# Altium schematic symbol library Lund_Schematics.SchLib: 27 symbols
Pins are listed as number, name and electrical type; pins without a type are passive.

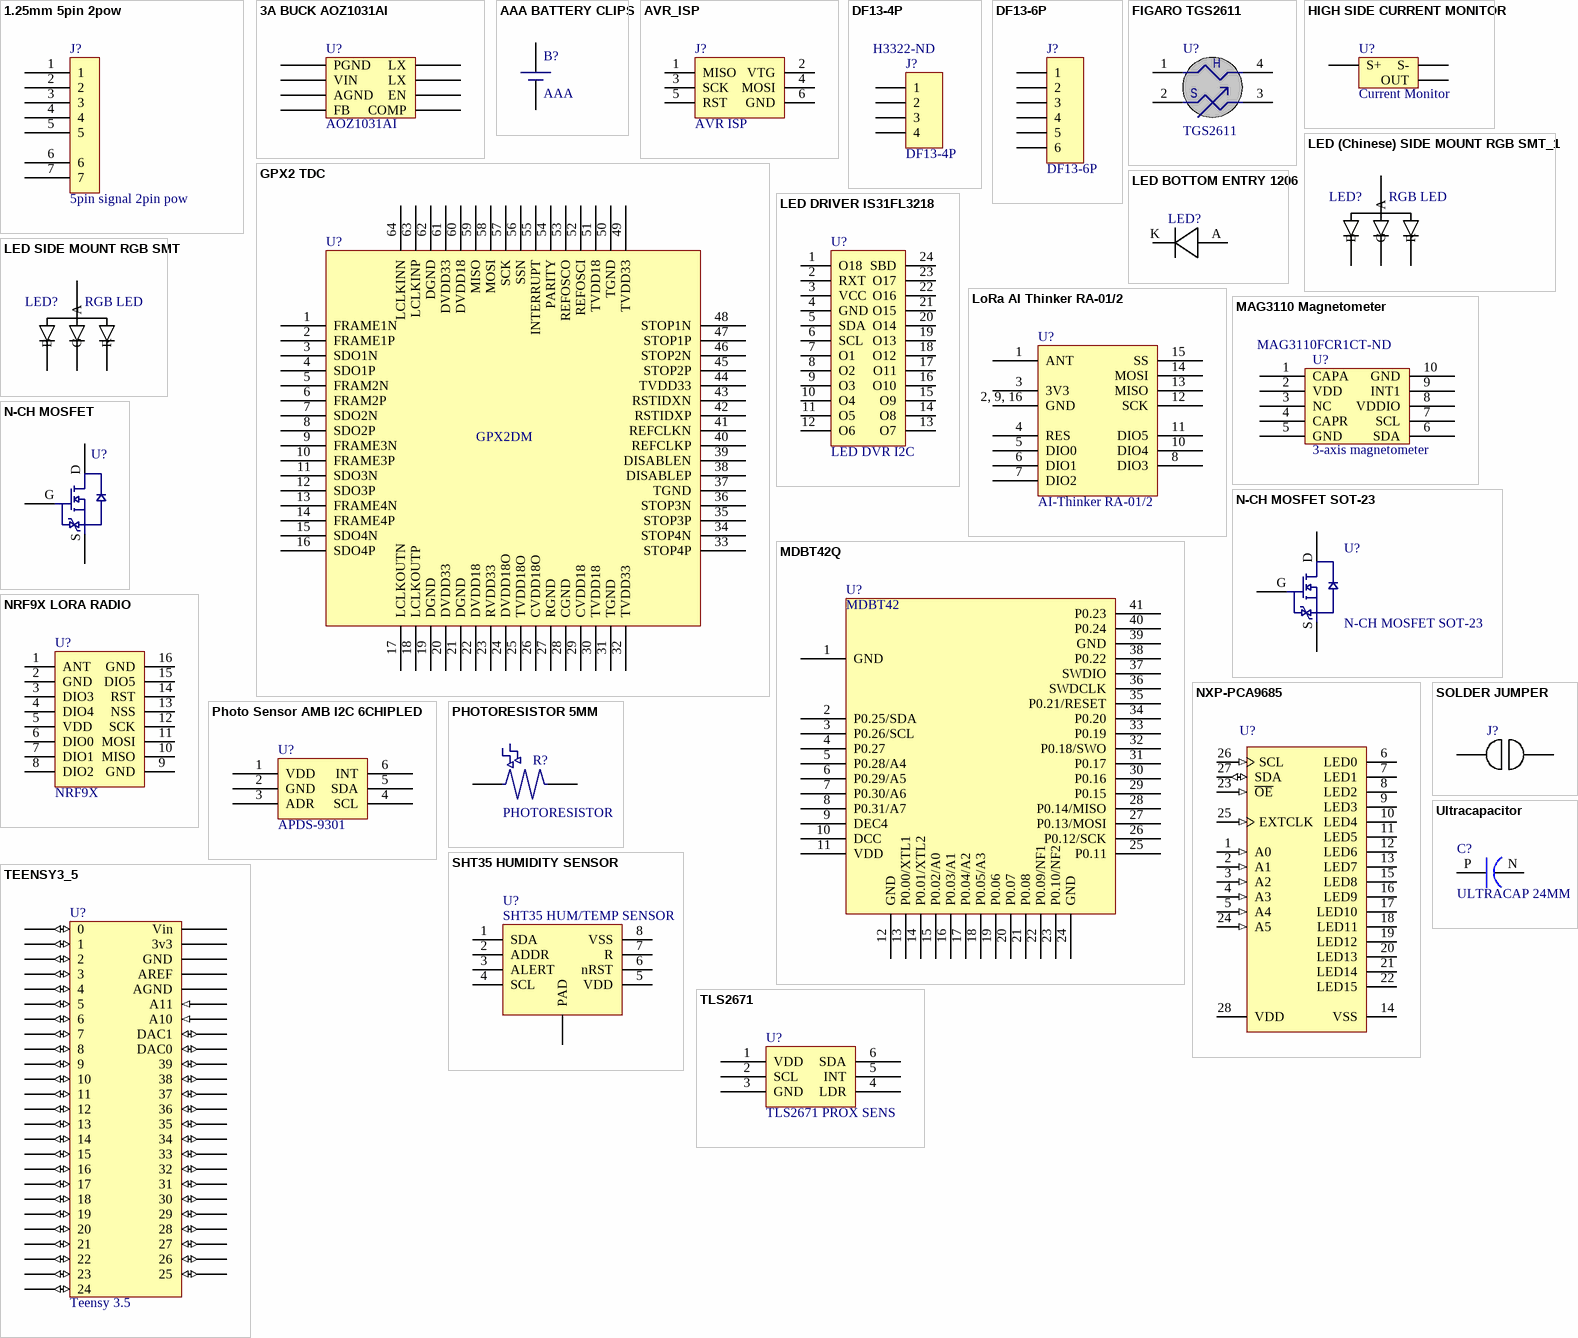
[diagram p0: symbols 1.25mm 5pin 2pow to Ultracapacitor]

## 1.25mm 5pin 2pow
designator J?, comment 5pin signal 2pin pow
footprint Contact Solder 5 Pin 2 Power
pins: 1, 2, 3, 4, 5, 6, 7

## 3A BUCK AOZ1031AI
designator U?, comment AOZ1031AI
3A Synchronous Buck Reg AOZ1031AI 18V; Supplier 1: Digi-Key
footprint SOIC-8 (SOIC, 8-Leads, Body 4.9x3.9mm, Pitch 1.27mm)
pins: 1 PGND, 2 VIN, 3 AGND, 4 FB, 5 COMP, 6 EN, 7 LX, 8 LX

## AAA BATTERY CLIPS
designator B?, comment AAA
AAA Battery Clips Tin-Coated Steel Through Hole; Supplier 1: Digi-Key; Supplier Part Number 1: BK-82-ND
footprint AAA BATTERY CLIPS (Keystone BK-82)
pins: N, P

## AVR_ISP
designator J?, comment AVR ISP
AVR ISP POGO CONNECTOR
footprint AVR_ISP (AVR_ISP POGO CONNECTOR)
pins: 1 MISO, 2 VTG, 3 SCK, 4 MOSI, 5 RST, 6 GND

## DF13-4P
designator J?  Supplier Part Number 1: H3322-ND
4 pin through hole 1.25mm pitch DF13 connector; Supplier 1: Digi-Key
footprint DF13 4PIN RA TH (4 pin 1.25mm pitch DF13 right angle through hole connector)
pins: 1, 2, 3, 4

## DF13-6P
designator J?
6 pin through hole 1.25mm pitch DF13 connector; Supplier 1: Digi-Key; Supplier Part Number 1: H3324-ND
footprint DF13 6PIN RA TH (6 pin 1.25mm pitch DF13 right angle through hole connector)
pins: 1, 2, 3, 4, 5, 6

## FIGARO TGS2611
designator U?, comment TGS2611
Figaro gas sensor TGS2611 (methane); Supplier 1: Allied; Supplier Part Number 1: 70913362
footprint TGS2611 (METHANE GAS SENSOR)
pins: 1, 2, 3, 4
text: H; S

## GPX2 TDC
designator U?, comment GPX2DM
GPX2 Time-to-Digital QFN64; Supplier 1: Digi-Key; Supplier Part Number 1: TDC-GPX2TRA-ND
footprint QFP64-TDCGPX2
footprint QFN64-TDCGPX2
pins: 1 FRAME1N, 2 FRAME1P, 3 SDO1N, 4 SDO1P, 5 FRAM2N, 6 FRAM2P, 7 SDO2N, 8 SDO2P, 9 FRAME3N, 10 FRAME3P, 11 SDO3N, 12 SDO3P, 13 FRAME4N, 14 FRAME4P, 15 SDO4N, 16 SDO4P, 17 LCLKOUTN, 18 LCLKOUTP, 19 DGND, 20 DVDD33, 21 DGND, 22 DVDD18, 23 RVDD33, 24 DVDD18O, 25 TVDD18O, 26 CVDD18O, 27 RGND, 28 CGND, 29 CVDD18, 30 TVDD18, 31 TGND, 32 TVDD33, 33 STOP4P, 34 STOP4N, 35 STOP3P, 36 STOP3N, 37 TGND, 38 DISABLEP, 39 DISABLEN, 40 REFCLKP, 41 REFCLKN, 42 RSTIDXP, 43 RSTIDXN, 44 TVDD33, 45 STOP2P, 46 STOP2N, 47 STOP1P, 48 STOP1N, 49 TVDD33, 50 TGND, 51 TVDD18, 52 REFOSCI, 53 REFOSCO, 54 PARITY, 55 INTERRUPT, 56 SSN, 57 SCK, 58 MOSI, 59 MISO, 60 DVDD18, 61 DVDD33, 62 DGND, 63 LCLKINP, 64 LCLKINN

## HIGH SIDE CURRENT MONITOR
designator U?, comment Current Monitor
high side current monitor; Supplier 1: Digi-Key; Supplier Part Number 1: ZXCT1107SA-7DICT-ND
footprint SOT23 (SOT-23 footprint)
pins: D OUT, G S+, S S-

## LED (Chinese) SIDE MOUNT RGB SMT_1
designator LED?, comment RGB LED
OVSRRGBCC3 RGB LED RIGHT ANGLE SMT; Supplier 1: Digi-Key; Supplier Part Number 1: 365-1981-1-ND
footprint LED RGB RA (LED RGB RA OVSRRGBCC3)
pins: 1 B, 2 G, 3 A, 4 R

## LED BOTTOM ENTRY 1206
designator LED?, comment Bottom Entry LED  (value not drawn)
1206 Bottom Entry LED; Supplier 1: Digi-Key; Supplier Part Number 1: 160-1457-6-ND
footprint LTST-C230KRKT (LED Bottom Entry)
pins: A, K

## LED DRIVER IS31FL3218
designator U?, comment LED DVR I2C
I2C 18 LED DRIVER IS31FL3218; Supplier 1: Digi-Key; Supplier Part Number 1: 706-1410-5-ND
footprint SOIC-24 7.5MM BODY
pins: 1 O18, 2 RXT, 3 VCC, 4 GND, 5 SDA, 6 SCL, 7 O1, 8 O2, 9 O3, 10 O4, 11 O5, 12 O6, 13 O7, 14 O8, 15 O9, 16 O10, 17 O11, 18 O12, 19 O13, 20 O14, 21 O15, 22 O16, 23 O17, 24 SBD

## LED SIDE MOUNT RGB SMT
designator LED?, comment RGB LED
OVSRRGBCC3 RGB LED RIGHT ANGLE SMT; Supplier 1: Digi-Key; Supplier Part Number 1: 365-1981-1-ND
footprint LED RGB RA (LED RGB RA OVSRRGBCC3)
pins: 1 R, 2 G, 3 B, 4 A

## LoRa AI Thinker RA-01/2
designator U?, comment AI-Thinker RA-01/2
LoRa Radio Module 433 MHz
footprint RA-01 LORA (RA lora module with wire antenna)
pins: 1 ANT, 2, 9, 16 GND, 3 3V3, 4 RES, 5 DIO0, 6 DIO1, 7 DIO2, 8 DIO3, 10 DIO4, 11 DIO5, 12 SCK, 13 MISO, 14 MOSI, 15 SS

## MAG3110 Magnetometer
designator U?, comment 3-axis magnetometer  Supplier Part Number 1: MAG3110FCR1CT-ND
3 axis magnetometer/compass; Supplier 1: Digi-Key
footprint VFQFN-10 (.4 mm pitch 10 pin QFN)
pins: 1 CAPA, 2 VDD, 3 NC, 4 CAPR, 5 GND, 6 SDA, 7 SCL, 8 VDDIO, 9 INT1, 10 GND

## MDBT42Q
designator U?, comment MDBT42
BLE 5.0 nRF52832; Supplier 1: Digi-Key; Supplier Part Number 1: 1597-1434-ND
footprint MDBT42Q (MDBT42Q BT 5.0 Module)
pins: 1 GND, 2 P0.25/SDA, 3 P0.26/SCL, 4 P0.27, 5 P0.28/A4, 6 P0.29/A5, 7 P0.30/A6, 8 P0.31/A7, 9 DEC4, 10 DCC, 11 VDD, 12 GND, 13 P0.00/XTL1, 14 P0.01/XTL2, 15 P0.02/A0, 16 P0.03/A1, 17 P0.04/A2, 18 P0.05/A3, 19 P0.06, 20 P0.07, 21 P0.08, 22 P0.09/NF1, 23 P0.10/NF2, 24 GND, 25 P0.11, 26 P0.12/SCK, 27 P0.13/MOSI, 28 P0.14/MISO, 29 P0.15, 30 P0.16, 31 P0.17, 32 P0.18/SWO, 33 P0.19, 34 P0.20, 35 P0.21/RESET, 36 SWDCLK, 37 SWDIO, 38 P0.22, 39 GND, 40 P0.24, 41 P0.23

## N-CH MOSFET
designator U?
N-channel MOSFET; Power: 280 mW; Drain to Source Voltage: 20 V; Vth: 1 V; Rds: 400 mOhm @ 600 mA 4.5V; Ids: 630 mA; Technology: SMT; Supplier 1: Digi-Key; Supplier Part Number 1: DMG1012T-7DICT-ND
footprint SOT523 (SOT523 package)
pins: D, G, S
1 alternate drawing of the same symbol

## N-CH MOSFET SOT-23
designator U?
footprint SOT23 (SOT-23 footprint)
pins: D, G, S

## NRF9X LORA RADIO
designator U?, comment NRF9X
Nordic NRF9X LoRa Radio Module 1.8-3.6V
footprint NRF9X LoRa Radio (Nordic NRF Series Lora Radio)
pins: 1 ANT, 2 GND, 3 DIO3, 4 DIO4, 5 VDD, 6 DIO0, 7 DIO1, 8 DIO2, 9 GND, 10 MISO, 11 MOSI, 12 SCK, 13 NSS, 14 RST, 15 DIO5, 16 GND

## NXP-PCA9685
designator U?
footprint SOT361-1_V (SOP, 28-Leads, Body 9.7x4.4mm, Pitch 0.65mm, NXP Recommended)
pins: 1 A0 (in) "address input 0", 2 A1 (in) "address input 1", 3 A2 (in) "address input 2", 4 A3 (in) "address input 3", 5 A4 (in) "address input 4", 6 LED0 (hiz) "LED driver 0", 7 LED1 (hiz) "LED driver 1", 8 LED2 (hiz) "LED driver 2", 9 LED3 (hiz) "LED driver 3", 10 LED4 (hiz) "LED driver 4", 11 LED5 (hiz) "LED driver 5", 12 LED6 (hiz) "LED driver 6", 13 LED7 (hiz) "LED driver 7", 14 VSS (power) "supply ground", 15 LED8 (hiz) "LED driver 8", 16 LED9 (hiz) "LED driver 9", 17 LED10 (hiz) "LED driver 10", 18 LED11 (hiz) "LED driver 11", 19 LED12 (hiz) "LED driver 12", 20 LED13 (hiz) "LED driver 13", 21 LED14 (hiz) "LED driver 14", 22 LED15 (hiz) "LED driver 15", 23 ~{OE} (in) "active LOW output enable", 24 A5 (in) "address input 5", 25 EXTCLK (in) "external clock input", 26 SCL (in) "serial clock line", 27 SDA (io) "serial data line", 28 VDD (power) "supply voltage"

## Photo Sensor AMB I2C 6CHIPLED
designator U?, comment APDS-9301
Photo Sensor APDS-9301 I2C; Supplier 1: Digi-Key; Supplier Part Number 1: 516-2664-1-ND
footprint APDS-9301 (I2C PHOTO SENSOR 6CHIPLED)
pins: 1 VDD, 2 GND, 3 ADR, 4 SCL, 5 SDA, 6 INT

## PHOTORESISTOR 5MM
designator R?, comment PHOTORESISTOR
5mm CdS(e) photoresistor; Supplier 1: Digi-Key; Supplier Part Number 1: PDV-P8103-ND
footprint PHOTORESISTOR 5MM (5mm standard footprint for CdS(e) photoresistor)
pins: 1, 2

## SHT35 HUMIDITY SENSOR
designator U?, comment SHT35 HUM/TEMP SENSOR
Sensirion SHT35 Humidity and Temperature Sensor I2C; Supplier 1: Digi-Key; Supplier Part Number 1: 1649-1067-1-ND
footprint SHT35 8DFN (8DFN W PAD FOR SHT35 HUMIDITY SENSOR)
pins: 1 SDA, 2 ADDR, 3 ALERT, 4 SCL, 5 VDD, 6 nRST, 7 R, 8 VSS, PAD

## SOLDER JUMPER
designator J?  (value not drawn)
Solder Jumper (1mm)
footprint SOLDER JUMPER (Solderable Jumper)
pins: 1, 2

## TEENSY3_5
designator U?, comment Teensy 3.5
Teensy 3.5 with SD card; Supplier 1: Digi-Key
footprint TEENSY3_5 (Teensy 3.5 board (w/ SD card) mating pattern)
pins: 0 (io), 1 (io), 2 (io), 3 (io), 3v3 (power), 4 (io), 5 (io), 6 (io), 7 (io), 8 (io), 9 (io), 10 (io), 11 (io), 12 (io), 13 (io), 14 (io), 15 (io), 16 (io), 17 (io), 18 (io), 19 (io), 20 (io), 21 (io), 22 (io), 23 (io), 24 (io), 25 (io), 26 (io), 27 (io), 28 (io), 29 (io), 30 (io), 31 (io), 32 (io), 33 (io), 34 (io), 35 (io), 36 (io), 37 (io), 38 (io), 39 (io), A10 (in), A11 (in), AGND (power), AREF, DAC0 (io), DAC1 (io), GND (power), Vin (power)

## TLS2671
designator U?, comment TLS2671 PROX SENS
TLS2671 visible and IR proximity sensor
footprint TLS2671 (IR AND VISIBLE PROX SENSOR)
pins: 1 VDD, 2 SCL, 3 GND, 4 LDR, 5 INT, 6 SDA

## Ultracapacitor
designator C?, comment ULTRACAP 24MM
4F 5.5V ultracapacitor
footprint UltraCap (24MM SPACING ULTRACAPACITOR)
pins: N NEG, P POS